# Altium footprint library JST XH B6B-XH-A.PCBLIB: 1 footprints
Each footprint in its own frame and in the unit in brackets; x right, y up, seen from the top. Pads: shape width x height; smd on the part's side, far side on the other; paste and mask are expansions set on the pad; w line width, h text height; cw(c..) or ccw(c..) is an arc to the next point about the centre after c.
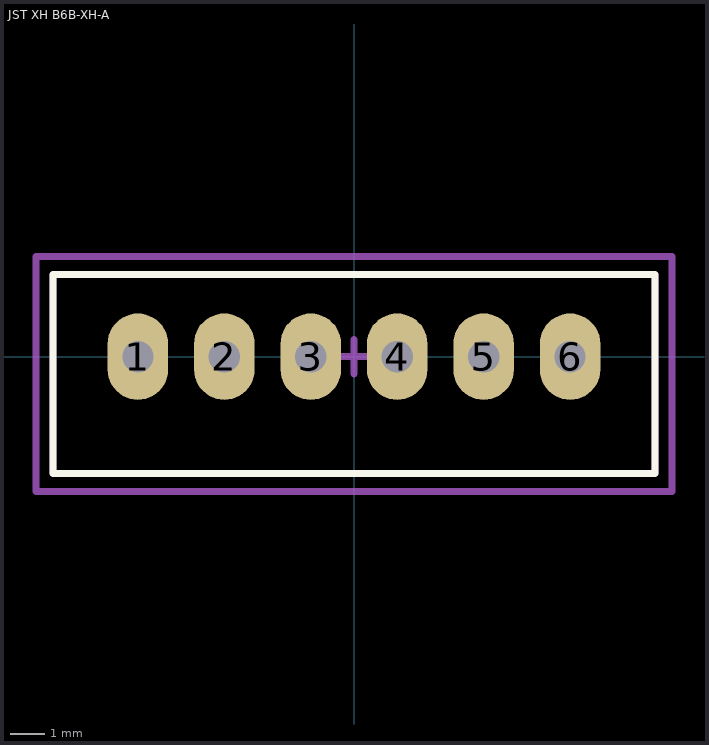
[diagram p0: the footprint, top view; thin cyan lines are the x and y axes]

## JST XH B6B-XH-A [mm]
height 7
pads (6):
  oval 1.75x2.5 hole 0.9: 1(-6.25,0) 2(-3.75,0) 3(-1.25,0) 4(1.25,0) 5(3.75,0) 6(6.25,0)
Top Overlay:
  lines w0.2: -8.7,-3.375 -8.7,2.375 8.7,2.375 8.7,-3.375 -8.7,-3.375
Mechanical 1:
  lines w0.2: -8.7,-3.375 8.7,-3.375 8.7,2.375 -8.7,2.375 -8.7,-3.375
Mechanical 15:
  lines w0.2: -0.5,0 0.5,0 ; 0,-0.5 0,0.5 ; -9.2,-3.9 -9.2,2.9 9.2,2.9 9.2,-3.9 -9.2,-3.9
3D body "JST B6B-XH-A.STEP": height 7, standoff -3.4, extent -8.7,-3.375 8.7,2.375